# Altium schematic symbol library Dzr_SchLib.SchLib: 2 symbols
Pins are listed as number, name and electrical type; pins without a type are passive.

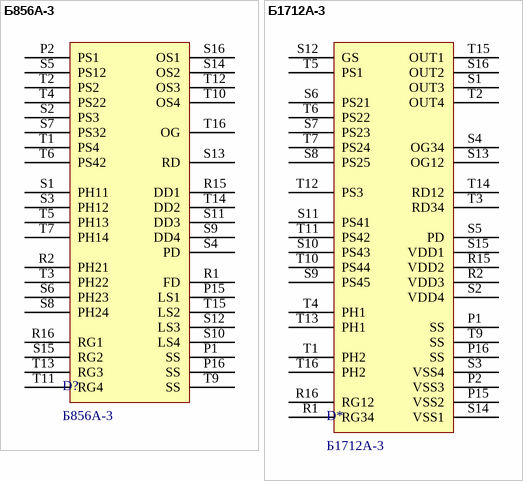
[diagram p0: symbols Б856А-3 to Б1712А-3]

## Б856А-3
designator D?
footprint Dzr_place
pins: P1 SS, P2 PS1, P15 LS1, P16 SS, R1 FD, R2 PH21, R15 DD1, R16 RG1, S1 PH11, S2 PS3, S3 PH12, S4 PD, S5 PS12, S6 PH23, S7 PS32, S8 PH24, S9 DD4, S10 LS4, S11 DD3, S12 LS3, S13 RD, S14 OS2, S15 RG2, S16 OS1, T1 PS4, T2 PS2, T3 PH22, T4 PS22, T5 PH13, T6 PS42, T7 PH14, T9 SS, T10 OS4, T11 RG4, T12 OS3, T13 RG3, T14 DD2, T15 LS2, T16 OG

## Б1712А-3
designator D*
footprint Dzr_place
pins: P1 SS, P2 VSS3, P15 VSS2, P16 SS, R1 RG34, R2 VDD3, R15 VDD2, R16 RG12, S1 OUT3, S2 VDD4, S3 VSS4, S4 OG34, S5 PD, S6 PS21, S7 PS23, S8 PS25, S9 PS45, S10 PS43, S11 PS41, S12 GS, S13 OG12, S14 VSS1, S15 VDD1, S16 OUT2, T1 PH2, T2 OUT4, T3 RD34, T4 PH1, T5 PS1, T6 PS22, T7 PS24, T9 SS, T10 PS44, T11 PS42, T12 PS3, T13 PH1, T14 RD12, T15 OUT1, T16 PH2